# Altium footprint library BLM18KG331WH1D.PcbLib: 3 footprints
Each footprint in its own frame and in the unit in brackets; x right, y up, seen from the top. Pads: shape width x height; smd on the part's side, far side on the other; paste and mask are expansions set on the pad; w line width, h text height; cw(c..) or ccw(c..) is an arc to the next point about the centre after c.
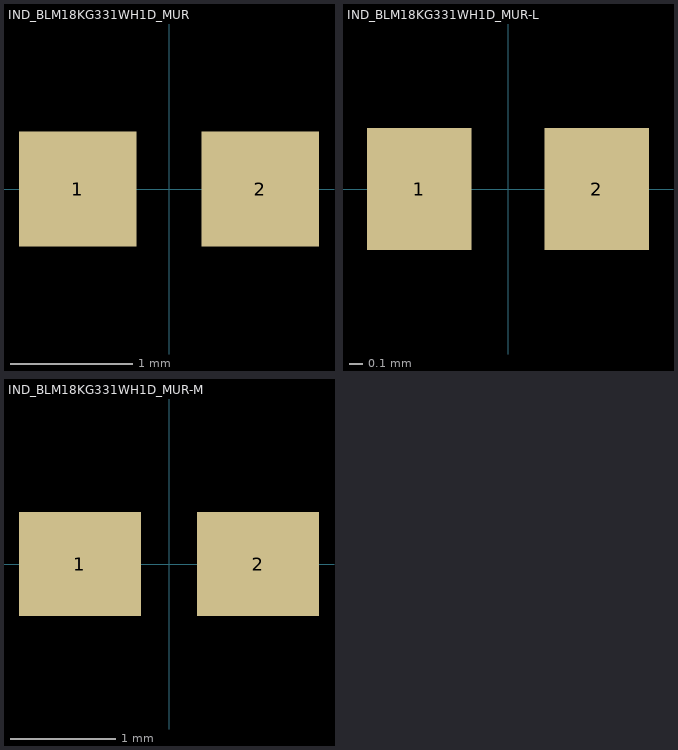
[diagram p0: the footprints below, top view; thin cyan lines are the x and y axes]

## IND_BLM18KG331WH1D_MUR [mil]
pads (2):
  rect 37.78x37 smd paste+0 mask+0: 1(-29.39,0) 2(29.39,0)

## IND_BLM18KG331WH1D_MUR-L [mil]
pads (2):
  rect 29.91x35.03 smd paste+0 mask+0: 1(-25.45,0) 2(25.45,0)

## IND_BLM18KG331WH1D_MUR-M [mil]
pads (2):
  rect 45.65x38.97 smd paste+0 mask+0: 1(-33.33,0) 2(33.33,0)